# EAGLE library part NKK-KP01 (library SKAARHOJ)
NKK-KP01-15AC 100mA12VDC
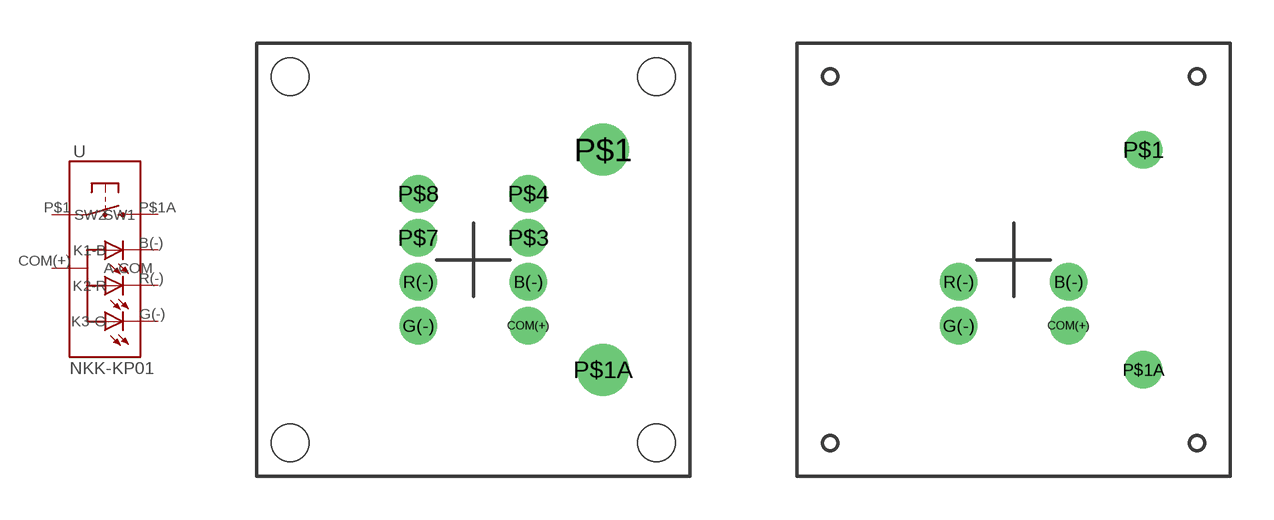
[diagram p7: symbol with the pads of NKK-KP01; footprints NKK-KP01, NKK-KP01_LESSHOLES]

Designator prefix -

## NKK-KP01  [NKK-KP01]
B(-)  K1-B
COM(+)  A-COM
G(-)  K3-G
P$1  SW1
P$1A  SW2
R(-)  K2-R

## NKK-KP01NKK-KP01_LESSHOLES  [NKK-KP01_LESSHOLES]
Pads as for NKK-KP01

## Footprint NKK-KP01 (pad centres in mm)
drill 0.8: B(-) 1.905,-0.762; COM(+) 1.905,-2.286; G(-) -1.905,-2.286; P$3 1.905,0.762; P$4 1.905,2.286; P$7 -1.905,0.762; P$8 -1.905,2.286; R(-) -1.905,-0.762
drill 1.2: P$1 4.496,3.81; P$1A 4.496,-3.81
hole 1.3 at -6.35,6.35
hole 1.3 at 6.35,6.35
hole 1.3 at 6.35,-6.35
hole 1.3 at -6.35,-6.35

## Footprint NKK-KP01_LESSHOLES (pad centres in mm)
drill 0.8: B(-) 1.905,-0.762; COM(+) 1.905,-2.286; G(-) -1.905,-2.286; P$1 4.496,3.81; P$1A 4.496,-3.81; R(-) -1.905,-0.762